# EAGLE library part MMA2240KEG:SOIC-16W (library rebelstack)
+/- 7g X-axis Analog Accelerometer, SOIC-16W
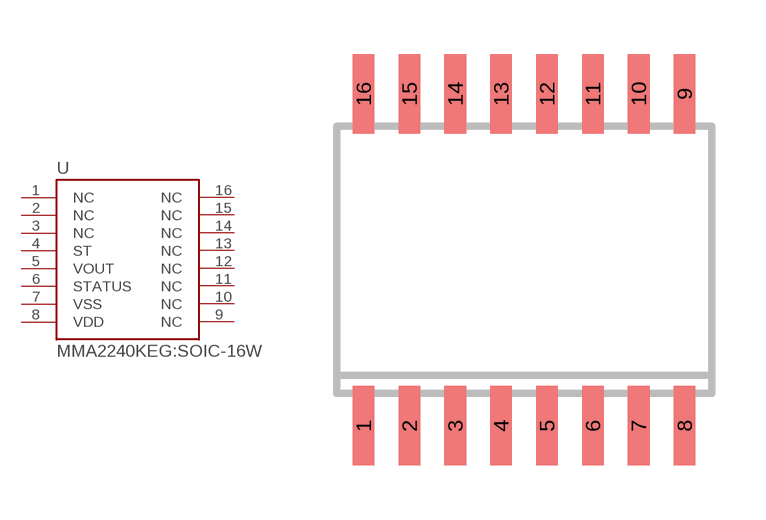
[diagram p2: symbol with the pads of SOIC-16W; footprint SOIC-16W]

Designator prefix U

## MMA2240KEG:SOIC-16W (DISTRIBUTOR: Digi-key; DISTRIBUTOR_PN: MMA2240KEG-ND)  [SOIC-16W]
1  NC  nc
2  NC  nc
3  NC  nc
4  ST  pas
5  VOUT  out
6  STATUS  out
7  VSS  pwr
8  VDD  pas
9  NC  nc
10  NC  nc
11  NC  nc
12  NC  nc
13  NC  nc
14  NC  nc
15  NC  nc
16  NC  nc

## Footprint SOIC-16W (pad centres in mm)
smd 0.6 x 2.2: 1 -4.445,-4.6; 2 -3.175,-4.6; 3 -1.905,-4.6; 4 -0.635,-4.6; 5 0.635,-4.6; 6 1.905,-4.6; 7 3.175,-4.6; 8 4.445,-4.6; 9 4.445,4.6; 10 3.175,4.6; 11 1.905,4.6; 12 0.635,4.6; 13 -0.635,4.6; 14 -1.905,4.6; 15 -3.175,4.6; 16 -4.445,4.6